# Altium footprint library PcbLib.PcbLib: 12 footprints
Each footprint in its own frame and in the unit in brackets; x right, y up, seen from the top. Pads: shape width x height; smd on the part's side, far side on the other; paste and mask are expansions set on the pad; w line width, h text height; cw(c..) or ccw(c..) is an arc to the next point about the centre after c.
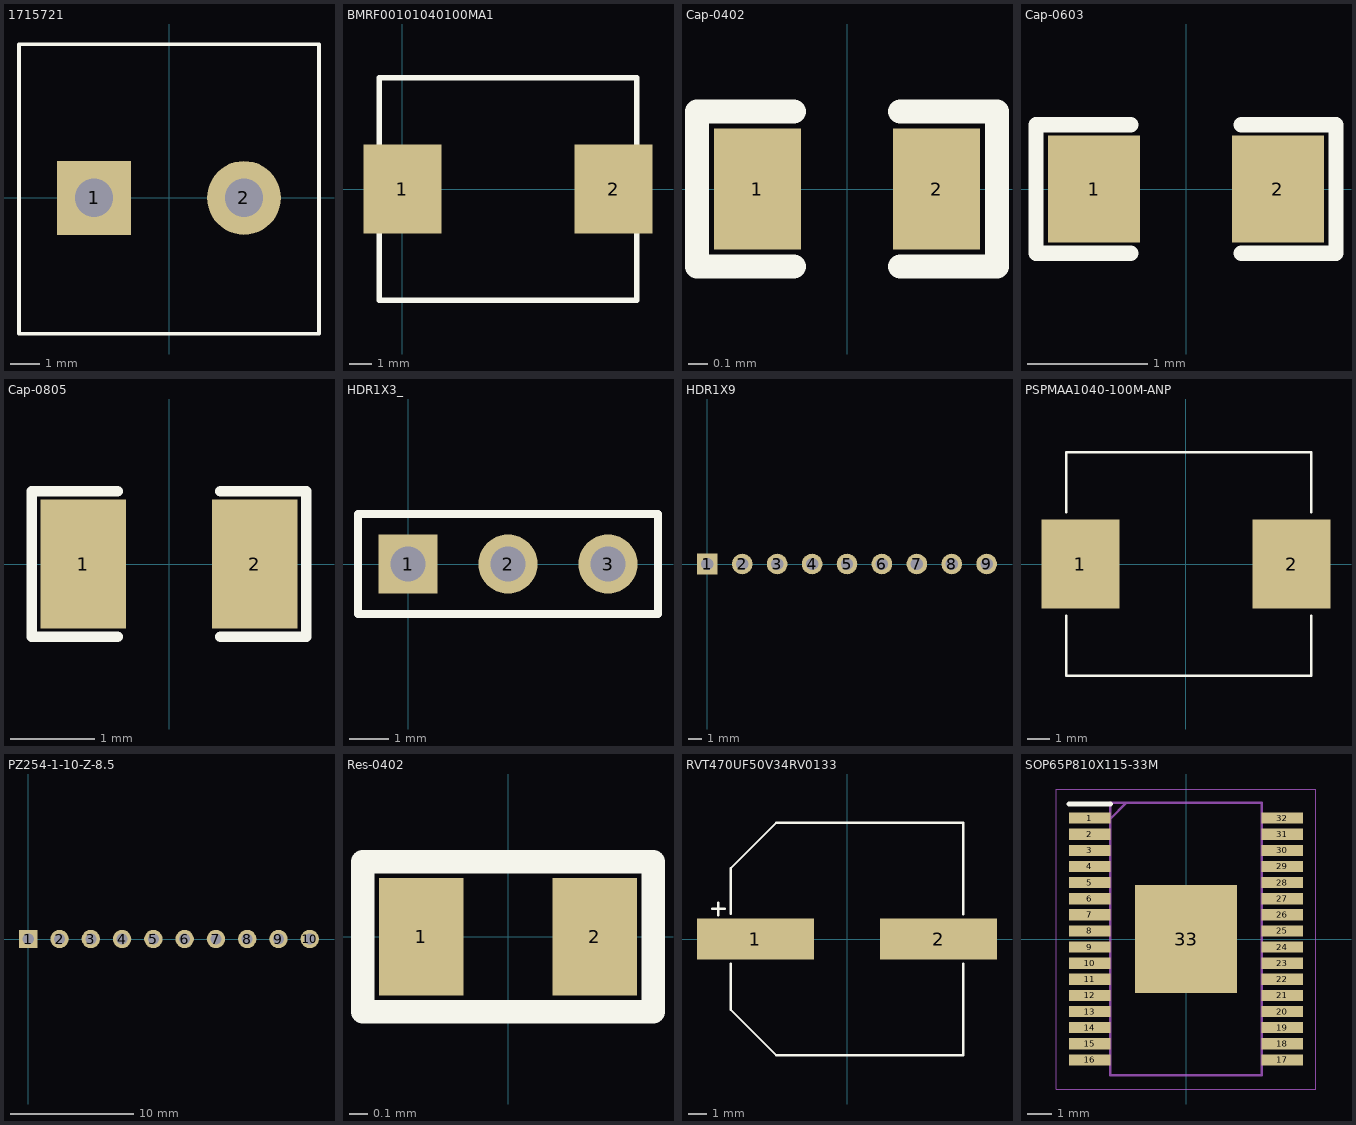
[diagram p0: the footprints below, top view; thin cyan lines are the x and y axes]

## 1715721 [mm]
pads (2):
  rect 2.5x2.5 / inner round 2.5 / far side rect 2.5x2.5 hole 1.3: 1(-2.54,0)
  round 2.5 hole 1.3: 2(2.54,0)
Top Overlay:
  lines w0.127: -5.08,-4.6 -5.08,5.2 5.08,5.2 5.08,-4.6 -5.08,-4.6
3D body "1715721.step": height 14.2, standoff -3.5, extent -5.644,-4.623 5.086,5.207

## BMRF00101040100MA1 [mm]
pads (2):
  rect 3.5x4 smd: 1(0,0) 2(9.5,0)
Top Overlay:
  lines w0.254: -1.05,-5 10.55,-5 10.55,5 -1.05,5 -1.05,-5
3D body: height 4, standoff 0, extent -1.016,-4.953 10.541,4.953

## Cap-0402 [mil]
pads (2):
  rect 18x25 smd mask+2.36: 1(-18.5,0) 2(18.5,0)
Top Overlay:
  lines w5: -11,-16 -31,-16 -31,16 -11,16 ; 11,-16 31,-16 31,16 11,16
3D body "User Library-Capacitor 0402.step": height 18.5, standoff -1.18, extent -19.68,-9.84 19.7,9.85

## Cap-0603 [mil]
pads (2):
  rect 30x35 smd mask+2.36: 1(-30,0) 2(30,0)
Top Overlay:
  lines w5: -18,-21 -49,-21 -49,21 -18,21 ; 18,-21 49,-21 49,21 18,21
3D body "User Library-CAPC1608X09.step": height 34.25, standoff -1.18, extent -31.51,-15.75 31.49,15.74

## Cap-0805 [mil] "SMD 0805"
pads (2):
  rect 40x60 smd mask+2.76: 1(-40,0) 2(40,0)
Top Overlay:
  lines w5: -24,-34 -64,-34 -64,34 -24,34 ; 24,-34 64,-34 64,34 24,34
3D body "User Library-0805 SMD Capacitor.step": height 30, standoff -0.79, extent -39.36,-24.6 39.38,24.61

## HDR1X3_ [mm] "Connector; Header; 3 Position"
pads (3):
  rect 1.5x1.5 hole 0.9: 1(0,0)
  round 1.5 hole 0.9: 2(2.54,0) 3(5.08,0)
Top Overlay:
  lines w0.2: -1.27,-1.27 -1.27,1.27 6.35,1.27 6.35,-1.27 -1.27,-1.27
3D body "User Library-Header_Male_3Pin.STEP": height 8.54, standoff -3, extent -1.27,-1.245 6.35,1.245

## HDR1X9 [mm]
pads (9):
  rect 1.5x1.5 hole 0.9: 1(0,0)
  round 1.5 hole 0.9: 2(2.54,0) 3(5.08,0) 4(7.62,0) 5(10.16,0) 6(12.7,0) 7(15.24,0) 8(17.78,0) 9(20.32,0)
3D body "1x9.STEP": height 8.34, standoff -3, extent -1.27,-1.295 21.59,1.245

## PSPMAA1040-100M-ANP [mm]
pads (2):
  rect 3.5x4 smd: 1(-4.75,0) 2(4.75,0)
Top Overlay:
  lines w0.127: -5.385,-2.337 -5.385,-5.029 5.639,-5.029 5.639,-2.337 ; -5.385,2.337 -5.385,5.029 5.639,5.029 5.639,2.337
3D body "PSPMAA1040-100M-ANP.STEP": height 4, standoff 0, extent -5.572,-5.035 5.828,4.965

## PZ254-1-10-Z-8.5 [mm]
pads (10):
  rect 1.5x1.5 hole 0.9: 1(0,0)
  round 1.5 hole 0.9: 2(2.54,0) 3(5.08,0) 4(7.62,0) 5(10.16,0) 6(12.7,0) 7(15.24,0) 8(17.78,0) 9(20.32,0) 10(22.86,0)
3D body "1X10_Header.step": height 9.51, standoff -3.19, extent -1.27,-1.25 24.13,1.25

## Res-0402 [mil]
pads (2):
  rect 18x25 smd mask+2.17: 1(-18.5,0) 2(18.5,0)
Top Overlay:
  lines w0.13: -32,-17 32,-17
  lines w5: -31,-16 31,-16 31,16 -31,16 -31,-16
3D body "User Library-RES_1005-0402.step": height 16.14, standoff 0, extent -22.63,-10.82 22.64,10.83

## RVT470UF50V34RV0133 [mm]
pads (2):
  rect 6.5x2.3 smd paste+0 mask+0.051: 1(-5.1,0) 2(5.1,0)
Top Overlay:
  lines w0.127: -7.518,1.676 -6.807,1.676 ; -7.163,1.321 -7.163,2.032 ; -6.477,-1.381 -6.477,-3.937 -3.937,-6.477 6.477,-6.477 6.477,-1.381 ; -6.477,1.397 -6.477,3.937 -3.937,6.477 6.477,6.477 6.477,1.381
3D body "C2837182.step": height 13.5, standoff 0, extent -7,-6.5 7,6.501

## SOP65P810X115-33M [mm]
pads (33):
  rect 1.675x0.45 smd: 1(-3.888,4.875) 2(-3.888,4.225) 3(-3.888,3.575) 4(-3.888,2.925) 5(-3.888,2.275) 6(-3.888,1.625) 7(-3.888,0.975) 8(-3.888,0.325) 9(-3.888,-0.325) 10(-3.888,-0.975) 11(-3.888,-1.625) 12(-3.888,-2.275) 13(-3.888,-2.925) 14(-3.888,-3.575) 15(-3.888,-4.225) 16(-3.888,-4.875) 17(3.888,-4.875) 18(3.888,-4.225) 19(3.888,-3.575) 20(3.888,-2.925) 21(3.888,-2.275) 22(3.888,-1.625) 23(3.888,-0.975) 24(3.888,-0.325) 25(3.888,0.325) 26(3.888,0.975) 27(3.888,1.625) 28(3.888,2.275) 29(3.888,2.925) 30(3.888,3.575) 31(3.888,4.225) 32(3.888,4.875)
  rect 4.11x4.36 smd: 33(0,0)
Top Overlay:
  lines w0.2: -4.725,5.45 -3.05,5.45
Mechanical 15:
  lines w0.1: -3.05,4.85 -2.4,5.5 ; -3.05,-5.5 -3.05,5.5 3.05,5.5 3.05,-5.5 -3.05,-5.5
Mechanical 20:
  lines w0.05: -5.225,-6.05 -5.225,6.05 5.225,6.05 5.225,-6.05 -5.225,-6.05
3D body "TAS5828MDADR.stp": height 1.15, standoff 0, extent -4.05,-5.5 4.05,5.5